# EAGLE library part SN10502 (library kamiki)
High-Speed Rail-to-Rail Output Video Amplifiers
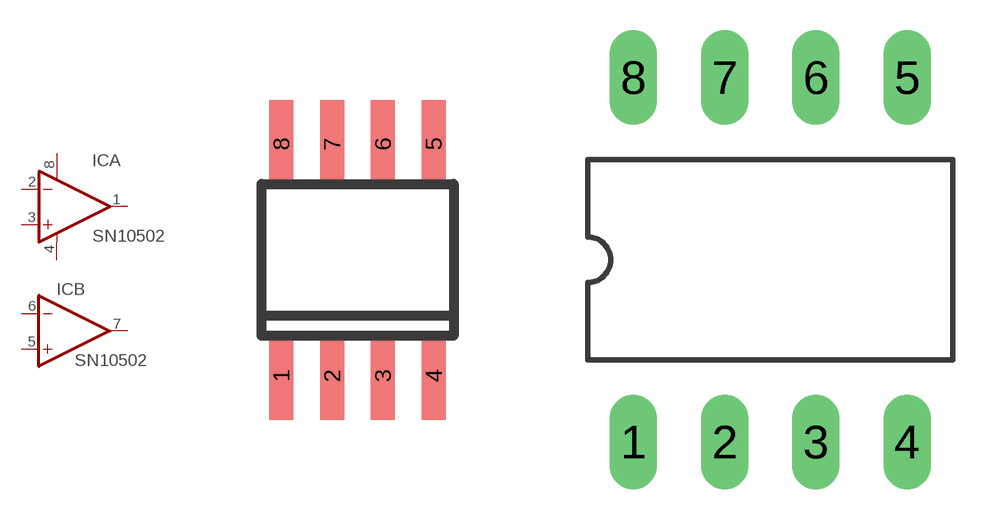
[diagram p27: symbol with the pads of SO08; footprints SO08, ICB060]

Designator prefix IC; gates A=OP-AMP+- B=OP-AMP

## SN10502U  [SO08]
1  A:OUT  out
2  A:-IN  in
3  A:+IN  in
4  A:V-  pwr
5  B:+IN  in
6  B:-IN  in
7  B:OUT  out
8  A:V+  pwr

## SN10502U/S  [ICB060]
Pads as for SO08

## Footprint SO08 (pad centres in mm)
Small Outline Package 8
smd 0.6 x 2.2: 1 -1.905,-2.9; 2 -0.635,-2.9; 3 0.635,-2.9; 4 1.905,-2.9; 5 1.905,2.9; 6 0.635,2.9; 7 -0.635,2.9; 8 -1.905,2.9

## Footprint ICB060 (pad centres in mm)
Dual In Line 8
drill 0.813 long: 1 -3.81,-5.08; 2 -1.27,-5.08; 3 1.27,-5.08; 4 3.81,-5.08; 5 3.81,5.08; 6 1.27,5.08; 7 -1.27,5.08; 8 -3.81,5.08